# Altium footprint library FNR07K561.PcbLib: 1 footprints
Each footprint in its own frame and in the unit in brackets; x right, y up, seen from the top. Pads: shape width x height; smd on the part's side, far side on the other; paste and mask are expansions set on the pad; w line width, h text height; cw(c..) or ccw(c..) is an arc to the next point about the centre after c.
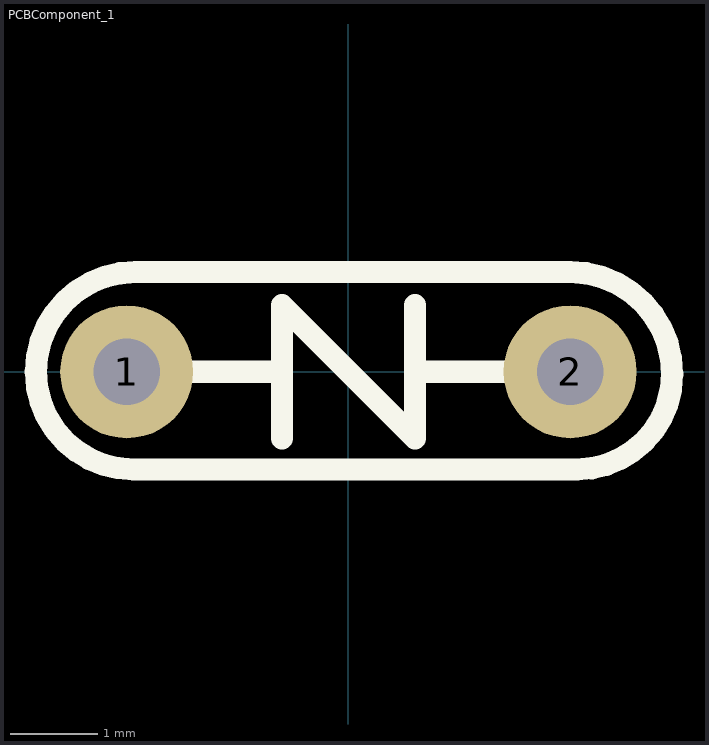
[diagram p0: the footprint, top view; thin cyan lines are the x and y axes]

## PCBComponent_1 [mil]
pads (2):
  round 60 hole 30: 1(-100,0) 2(100,0)
Top Overlay:
  lines w10: -70,0 -30,0 ; -30,-30 -30,30 30,-30 30,30 ; 30,0 70,0 ; -141,0 cw(c-96,0) -96,45 -11,45 100,45 cw(c100,-1) 146,-1 cw(c103,-1) 103,-44 -97,-44 cw(c-97,0) -141,0